# Altium footprint library jack_3.5_smd_stereo_ebay_hongkongsuperseller.PcbLib: 1 footprints
Each footprint in its own frame and in the unit in brackets; x right, y up, seen from the top. Pads: shape width x height; smd on the part's side, far side on the other; paste and mask are expansions set on the pad; w line width, h text height; cw(c..) or ccw(c..) is an arc to the next point about the centre after c.
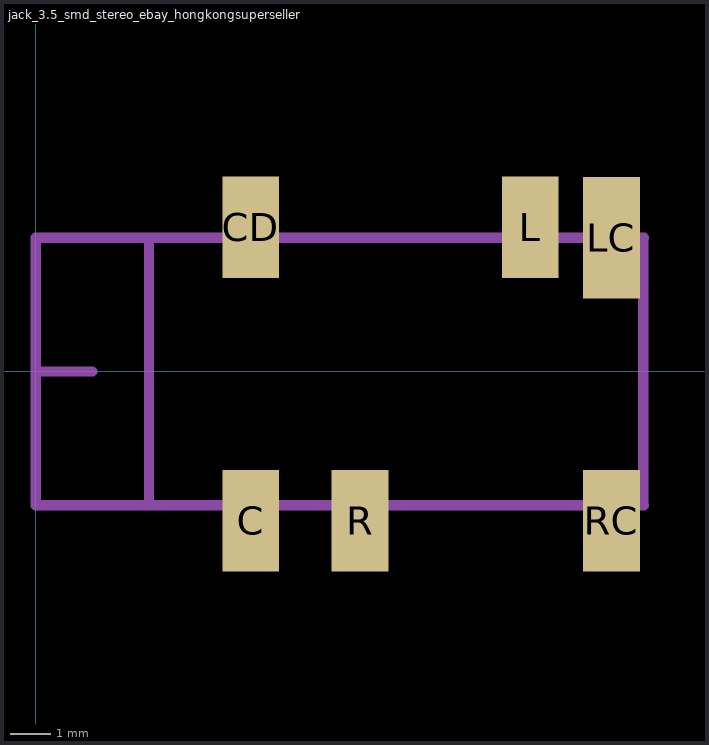
[diagram p0: the footprint, top view; thin cyan lines are the x and y axes]

## jack_3.5_smd_stereo_ebay_hongkongsuperseller [mm] "http://www.ebay.com/itm/5p-1-8-3-5mm-Female-Stereo-TRS-Panel-Mount-SMD-Jack-FJ-/300556992685?pt=LH_DefaultDomain_0&hash=item45fa97c0ad"
pads (6):
  rect 1.4x2.5 smd: C(5.3,-3.683) CD(5.3,3.556) L(12.2,3.556) R(8,-3.683) RC(14.2,-3.683)
  rect 1.4x3 smd: LC(14.2,3.302)
Mechanical 13:
  lines w0.254: 2.794,3.3 2.794,-3.294 2.8,-3.3 ; 14.986,3.302 14.986,-3.286 15,-3.3 0,-3.3 0,3.3 15,3.3
  text ".Designator" at 5.461,0 h1.5
Mechanical 15:
  lines w0.254: 0,0 1.397,0
3D body: height 5, standoff 0, extent 0.127,-3.4 14.927,3.4